# Altium footprint library IR2104SPBF.PcbLib: 3 footprints
Each footprint in its own frame and in the unit in brackets; x right, y up, seen from the top. Pads: shape width x height; smd on the part's side, far side on the other; paste and mask are expansions set on the pad; w line width, h text height; cw(c..) or ccw(c..) is an arc to the next point about the centre after c.
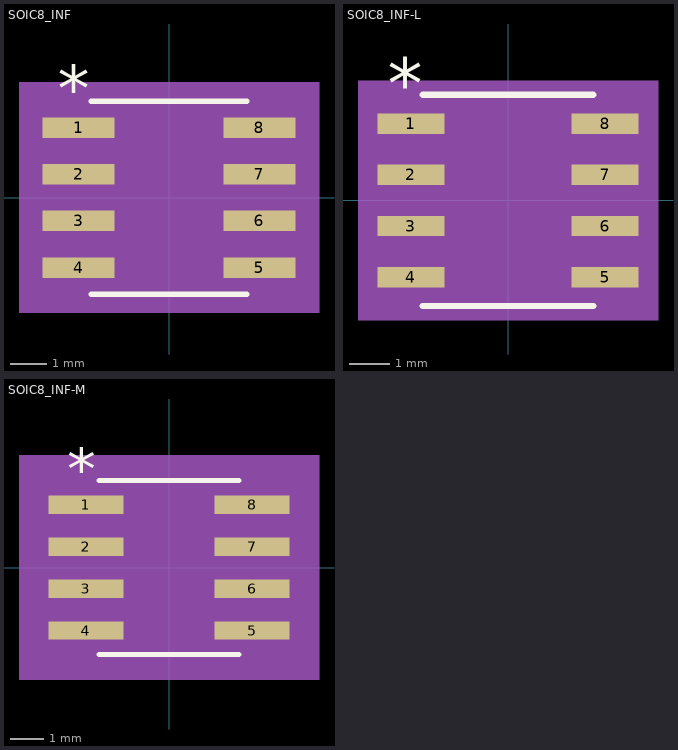
[diagram p0: the footprints below, top view; thin cyan lines are the x and y axes]

## SOIC8_INF [mil]
pads (8):
  rect 77.56x21.97 smd paste+0 mask+0: 1(-97,75) 2(-97,25) 3(-97,-25) 4(-97,-75) 5(97,-75) 6(97,-25) 7(97,25) 8(97,75)
Top Overlay:
  lines w6: -83.5,-103.5 83.5,-103.5 ; -83.5,103.5 83.5,103.5
  text "*" at -119.5,91.97 h50
Mechanical 5:
  region: 160.78,-123.5 -160.78,-123.5 -160.78,123.5 160.78,123.5
Mechanical 13:
  lines w0: -12,98.5 ccw(c0,98.5) 12,98.5
  lines w1: -122,-85 -122,-65 -78.5,-65 -78.5,-85 -122,-85 ; -122,-35 -122,-15 -78.5,-15 -78.5,-35 -122,-35 ; -122,15 -122,35 -78.5,35 -78.5,15 -122,15 ; -122,65 -122,85 -78.5,85 -78.5,65 -122,65 ; -78.5,-98.5 78.5,-98.5 78.5,98.5 -78.5,98.5 -78.5,-98.5 ; 78.5,-85 78.5,-65 122,-65 122,-85 78.5,-85 ; 78.5,-35 78.5,-15 122,-15 122,-35 78.5,-35 ; 78.5,15 78.5,35 122,35 122,15 78.5,15 ; 78.5,65 78.5,85 122,85 122,65 78.5,65
  text "*" at -76,45.5 h50
Mechanical 15:
  region: -88.5,-95.98 -145.78,-95.98 -145.78,95.98 -88.5,95.98 -88.5,108.5 88.5,108.5 88.5,95.98 145.78,95.98 145.78,-95.98 88.5,-95.98 88.5,-108.5 -88.5,-108.5
  lines w6: -145.78,-95.98 -145.78,95.98 -88.5,95.98 -88.5,108.5 88.5,108.5 88.5,95.98 145.78,95.98 145.78,-95.98 88.5,-95.98 88.5,-108.5 -88.5,-108.5 -88.5,-95.98 -145.78,-95.98
3D body "SOIC8_INF.step": height 69.09, standoff 0, extent -122.01,-98.5 122.01,98.5

## SOIC8_INF-L [mil]
pads (8):
  rect 65.75x20 smd paste+0 mask+0: 1(-95.03,75) 2(-95.03,25) 3(-95.03,-25) 4(-95.03,-75) 5(95.03,-75) 6(95.03,-25) 7(95.03,25) 8(95.03,75)
Top Overlay:
  lines w6: -83.5,-103.5 83.5,-103.5 ; -83.5,103.5 83.5,103.5
  text "*" at -117.53,90 h50
Mechanical 5:
  region: 146.91,-117.5 -146.91,-117.5 -146.91,117.5 146.91,117.5
Mechanical 13:
  lines w0: -12,98.5 ccw(c0,98.5) 12,98.5
  lines w1: -122,-85 -122,-65 -78.5,-65 -78.5,-85 -122,-85 ; -122,-35 -122,-15 -78.5,-15 -78.5,-35 -122,-35 ; -122,15 -122,35 -78.5,35 -78.5,15 -122,15 ; -122,65 -122,85 -78.5,85 -78.5,65 -122,65 ; -78.5,-98.5 78.5,-98.5 78.5,98.5 -78.5,98.5 -78.5,-98.5 ; 78.5,-85 78.5,-65 122,-65 122,-85 78.5,-85 ; 78.5,-35 78.5,-15 122,-15 122,-35 78.5,-35 ; 78.5,15 78.5,35 122,35 122,15 78.5,15 ; 78.5,65 78.5,85 122,85 122,65 78.5,65
  text "*" at -76,45.5 h50
Mechanical 15:
  region: -82.5,-89 -131.91,-89 -131.91,89 -82.5,89 -82.5,102.5 82.5,102.5 82.5,89 131.91,89 131.91,-89 82.5,-89 82.5,-102.5 -82.5,-102.5
  lines w6: -131.91,-89 -131.91,89 -82.5,89 -82.5,102.5 82.5,102.5 82.5,89 131.91,89 131.91,-89 82.5,-89 82.5,-102.5 -82.5,-102.5 -82.5,-89 -131.91,-89
3D body "SOIC8_INF.step": height 69.09, standoff 0, extent -122.01,-98.5 122.01,98.5

## SOIC8_INF-M [mm]
pads (8):
  rect 2.27x0.558 smd paste+0 mask+0: 1(-2.514,1.905) 2(-2.514,0.635) 3(-2.514,-0.635) 4(-2.514,-1.905) 5(2.514,-1.905) 6(2.514,-0.635) 7(2.514,0.635) 8(2.514,1.905)
Top Overlay:
  lines w0.152: -2.121,-2.629 2.121,-2.629 ; -2.121,2.629 2.121,2.629
  text "*" at -3.085,2.336 h1.27
Mechanical 5:
  region: 4.538,-3.391 -4.538,-3.391 -4.538,3.391 4.538,3.391
Mechanical 13:
  lines w0: -0.305,2.502 ccw(c0,2.502) 0.305,2.502
  lines w0.025: -3.099,-2.159 -3.099,-1.651 -1.994,-1.651 -1.994,-2.159 -3.099,-2.159 ; -3.099,-0.889 -3.099,-0.381 -1.994,-0.381 -1.994,-0.889 -3.099,-0.889 ; -3.099,0.381 -3.099,0.889 -1.994,0.889 -1.994,0.381 -3.099,0.381 ; -3.099,1.651 -3.099,2.159 -1.994,2.159 -1.994,1.651 -3.099,1.651 ; -1.994,-2.502 1.994,-2.502 1.994,2.502 -1.994,2.502 -1.994,-2.502 ; 1.994,-2.159 1.994,-1.651 3.099,-1.651 3.099,-2.159 1.994,-2.159 ; 1.994,-0.889 1.994,-0.381 3.099,-0.381 3.099,-0.889 1.994,-0.889 ; 1.994,0.381 1.994,0.889 3.099,0.889 3.099,0.381 1.994,0.381 ; 1.994,1.651 1.994,2.159 3.099,2.159 3.099,1.651 1.994,1.651
  text "*" at -1.93,1.156 h1.27
Mechanical 15:
  region: -2.502,-2.692 -4.157,-2.692 -4.157,2.692 -2.502,2.692 -2.502,3.01 2.502,3.01 2.502,2.692 4.157,2.692 4.157,-2.692 2.502,-2.692 2.502,-3.01 -2.502,-3.01
  lines w0.152: -4.157,-2.692 -4.157,2.692 -2.502,2.692 -2.502,3.01 2.502,3.01 2.502,2.692 4.157,2.692 4.157,-2.692 2.502,-2.692 2.502,-3.01 -2.502,-3.01 -2.502,-2.692 -4.157,-2.692
3D body "SOIC8_INF.step": height 1.76, standoff 0, extent -3.099,-2.502 3.099,2.502